# Altium footprint library AMPHENOL_GSB4211311WEU.PcbLib: 1 footprints
Each footprint in its own frame and in the unit in brackets; x right, y up, seen from the top. Pads: shape width x height; smd on the part's side, far side on the other; paste and mask are expansions set on the pad; w line width, h text height; cw(c..) or ccw(c..) is an arc to the next point about the centre after c.
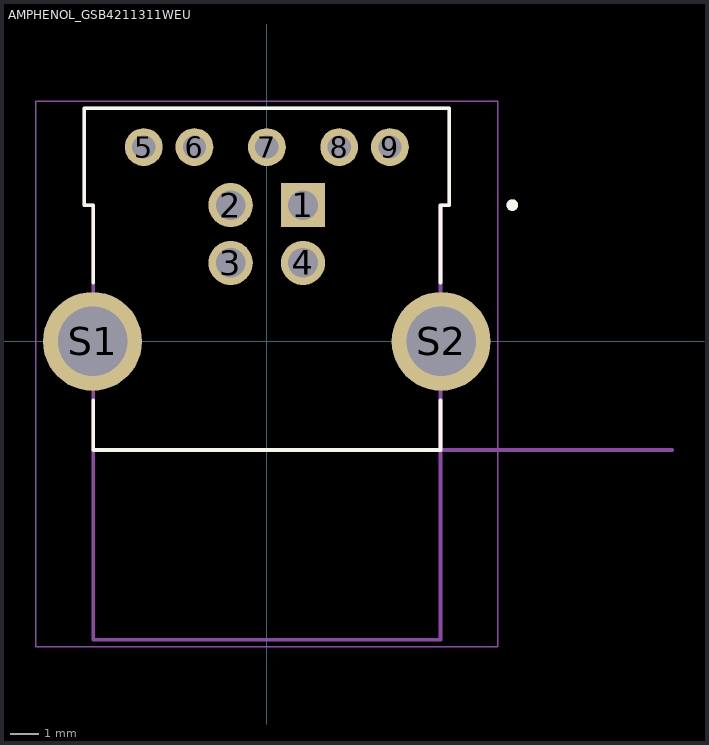
[diagram p0: the footprint, top view; thin cyan lines are the x and y axes]

## AMPHENOL_GSB4211311WEU [mm]
height 13.1
pads (11):
  rect 1.53x1.53 / inner round 1.53 / far side rect 1.53x1.53 hole 1.02: 1(1.25,4.71)
  round 1.53 hole 1.02: 2(-1.25,4.71) 3(-1.25,2.71) 4(1.25,2.71)
  round 1.308 hole 0.8: 5(-4.25,6.71) 6(-2.5,6.71) 7(0,6.71) 8(2.5,6.71) 9(4.25,6.71)
  round 3.416 hole 2.4: S1(-6.02,0) S2(6.02,0)
Top Overlay:
  circle w0.2: c8.478,4.71 r0.1
  lines w0.127: -6,-2.028 -6,-3.75 6,-3.75 6,-2.028 ; -6,2.028 -6,4.7 -6.3,4.7 -6.3,8.05 6.3,8.05 6.3,4.7 6,4.7 6,2.028
Assembly Top:
  circle w0.2: c8.478,4.71 r0.1
  lines w0.127: 14,-3.75 -6,-3.75 ; -6,-3.75 -6,-10.3 6,-10.3 6,4.7 6.3,4.7 6.3,8.05 -6.3,8.05 -6.3,4.7 -6,4.7 -6,-3.75
  text "PCB EDGE" at 8.25,-3.5 h0.81
Courtyard Top:
  lines w0.05: -7.978,-10.55 -7.978,8.3 7.978,8.3 7.978,-10.55 -7.978,-10.55
3D body "step_temp.STEP": height 13.11, standoff -4.1, extent -6.3,-10.295 6.3,8.055